# Altium footprint library RADIAL_Test.PcbLib: 23 footprints (part 2 of 2)
Each footprint in its own frame and in the unit in brackets; x right, y up, seen from the top. Pads: shape width x height; smd on the part's side, far side on the other; paste and mask are expansions set on the pad; w line width, h text height; cw(c..) or ccw(c..) is an arc to the next point about the centre after c.
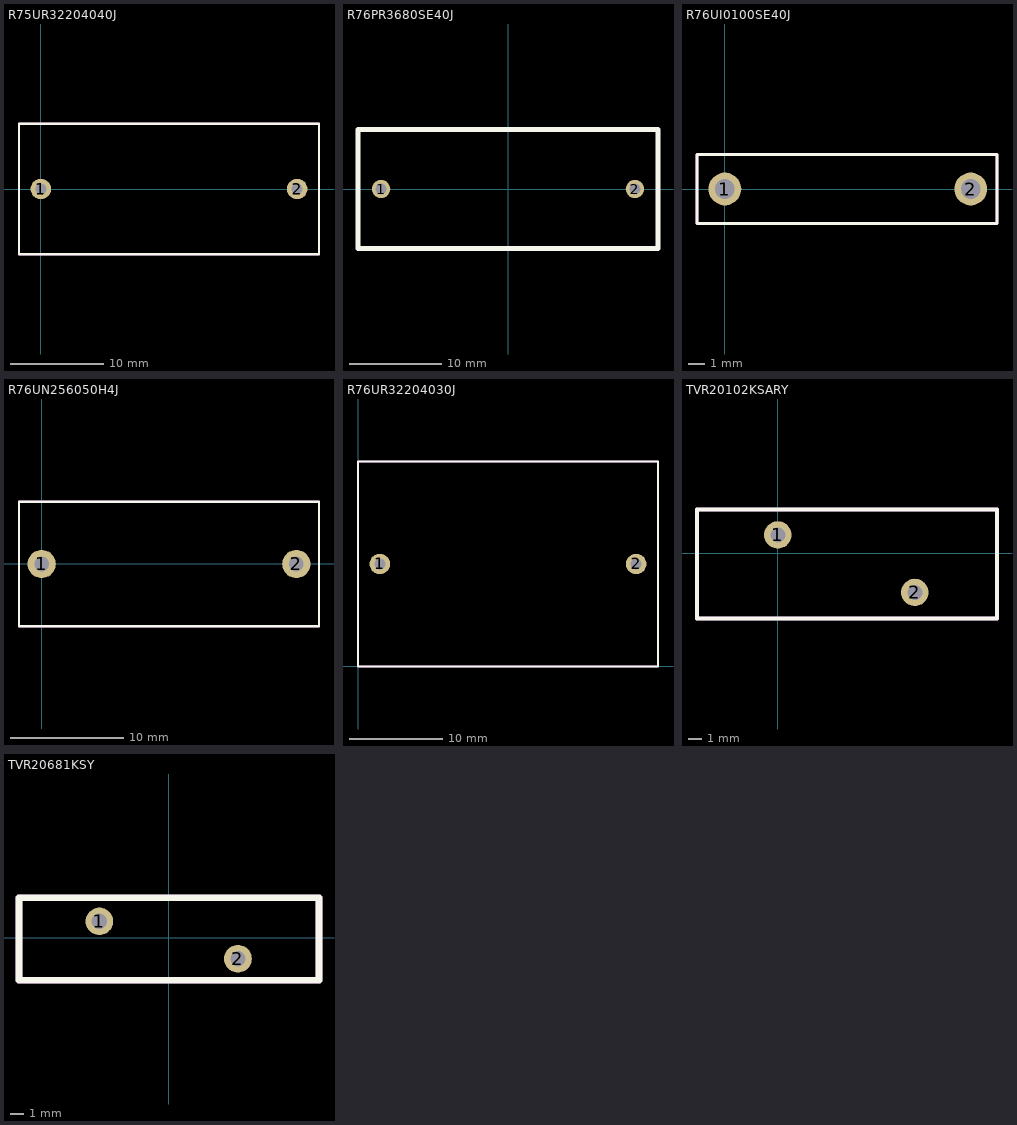
[diagram p1: the footprints below, top view; thin cyan lines are the x and y axes]

## R75UR32204040J [mm]
pads (2):
  round 2.2 hole 1.2: 1(0,0) 2(27.5,0)
Top Overlay:
  lines w0.25: -2.35,-7 29.85,-7 29.85,7 -2.35,7 -2.35,-7
Mechanical 29:
  lines w0.25: -2.35,-7 -2.35,7 29.85,7 29.85,-7 -2.35,-7
  text "'.Designator'" at 1.8,-1.361 h5
3D body "R75UR32204040J.step": height 28.6, standoff -34.5, extent -2.4,-7.1 29.9,7.105

## R76PR3680SE40J [mm]
pads (2):
  round 2 hole 1.2: 1(-13.75,0) 2(13.75,0)
Top Overlay:
  lines w0.5: -16.25,-6.45 16.25,-6.45 16.25,6.45 -16.25,6.45 -16.25,-3 -16.25,-6.45
Mechanical 29:
  text "'.Designator'" at -7.258,-0.736 h3
3D body "R76PR3680SE40J.step": height 25.1, standoff -6, extent -16.1,-6.602 16.2,6.602

## R76UI0100SE40J [mm]
pads (2):
  round 2 hole 1.2: 1(0,0) 2(15,0)
Top Overlay:
  lines w0.2: -1.7,-2.1 -1.7,-0.6 -1.7,2.1 16.6,2.1 16.6,-2.1 -1.7,-2.1
Mechanical 29:
  lines w0.2: -1.7,-2.1 16.6,-2.1 16.6,2.1 -1.7,2.1 -1.7,-0.6 -1.7,-2.1
  text "'.Designator'" at 2.5,-0.8 h2
3D body "R76UI0100SE40J.step": height 10.6, standoff -5.5, extent -1.65,-2.102 16.65,2.103

## R76UN256050H4J [mm]
pads (2):
  round 2.5 hole 1.3: 1(0,0) 2(22.5,0)
Top Overlay:
  lines w0.2: -2,-5.5 24.5,-5.5 24.5,5.5 -2,5.5 -2,-5.5
Mechanical 29:
  lines w0.2: -2,-5.5 -2,5.5 24.5,5.5 24.5,-5.5 -2,-5.5
  text "'.Designator'" at 7,-0.9 h2
3D body "R76UN256050H4J.step": height 20.6, standoff -26.5, extent -2.2,-5.605 24.6,5.6

## R76UR32204030J [mm]
pads (2):
  round 2.2 hole 1.2 unplated: 1(2.35,11) 2(29.85,11)
Top Overlay:
  lines w0.25: 0,0 32.2,0 32.2,22 0,22 0,0
Mechanical 29:
  lines w0.25: 0,0 0,22 32.2,22 32.2,0 0,0
3D body "R76UR32204030J.step": height 38.1, standoff -34, extent -0.05,-0.102 32.25,22.103

## TVR20102KSARY [mm]
pads (2):
  round 2 hole 1.1: 1(0,1.35) 2(10,-2.85)
Top Overlay:
  lines w0.3: -5.9,-4.75 -5.9,3.2 16,3.2 16,-4.75 -5.9,-4.75
Mechanical 29:
  lines w0.3: -5.9,-4.75 16,-4.75 16,3.2 -5.9,3.2 -5.9,-4.75
  text "'.Designator'" at 1.3,-1.414 h1.52
3D body "EPCOS_B72220S0301K101_v2.step": height 30.75, standoff -5.5, extent -5.7,-3.5 15.8,2.1

## TVR20681KSY [mm]
pads (2):
  round 2 hole 1.1: 1(-5,1.2) 2(5,-1.5)
Top Overlay:
  lines w0.5: -10.8,-3.05 10.85,-3.05 10.85,2.9 -10.8,2.9 -10.8,-3.05
Mechanical 29:
  lines w0.5: -10.8,-3.05 10.85,-3.05 10.85,2.9 -10.8,2.9 -10.8,-3.05
  text "'.Designator'" at -7.175,-0.736 h3
3D body "User Library-Varistor_20mm.STEP": height 25.5, standoff -1.99, extent -10.706,-2.998 10.794,2.8